# EAGLE library part SNES-MULTIAV (library nintendo)
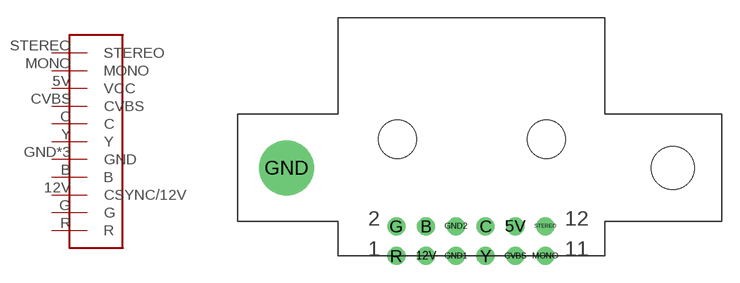
[diagram p0: symbol with the pads of SNES-MULTIAV; footprint SNES-MULTIAV]

Designator prefix -

## SNES-MULTIAV  [SNES-MULTIAV]
5V  VCC  out
12V  CSYNC/12V  out
B  B  out
C  C  out
CVBS  CVBS  out
G  G  out
GND  GND  out
GND1  GND  out
GND2  GND  out
MONO  MONO  out
R  R  out
STEREO  STEREO  out
Y  Y  out

## Footprint SNES-MULTIAV (pad centres in mm)
drill 1: 5V 14.9,2.5; 12V 7.4,0; B 7.4,2.5; C 12.4,2.5; CVBS 14.9,0; G 4.9,2.5; GND1 9.9,0; GND2 9.9,2.5; MONO 17.4,0; R 4.9,0; STEREO 17.4,2.5; Y 12.4,0
drill 3.6: GND -4.3,7.4
hole 3.6 at 28.1,7.4
hole 3.2 at 5,9.8
hole 3.2 at 17.5,9.8